# Altium schematic symbol library 4.4 - ADC模数转换器件.SchLib: 32 symbols
Pins are listed as number, name and electrical type; pins without a type are passive.

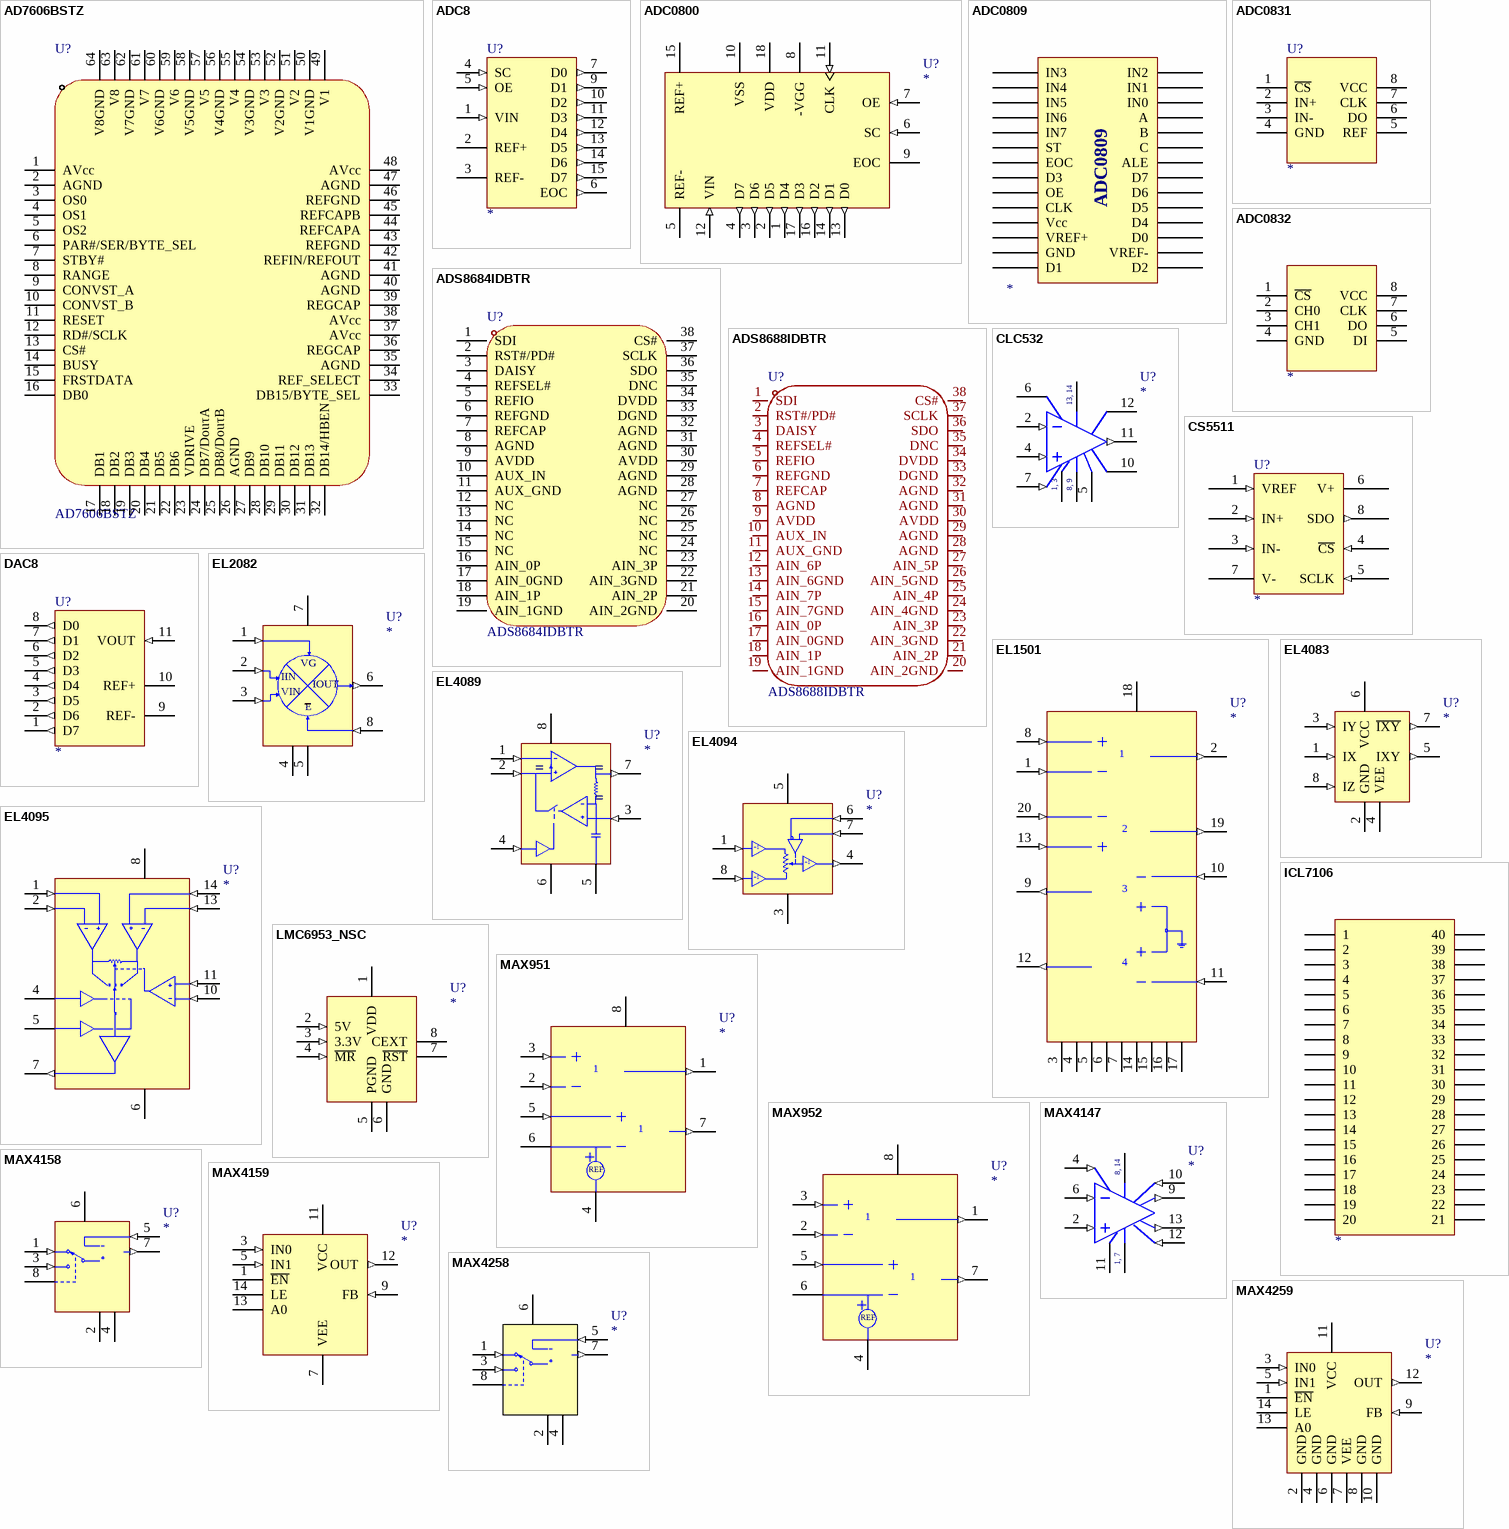
[diagram p0: symbols AD7606BSTZ to MAX4259]

## AD7606BSTZ
designator U?
ADC转换器件; Manufacturer: ADI(亚德诺); Symbol: AD7606BSTZ_C398827; Add into BOM: yes; Resolution: 16; Number of Channels: 8; Supply Voltage: 2.3V~5.25V；4.75V~5.25V; Device: AD7606BSTZ; LCSC Part Name: 8 通道 DAS，支持 16 位、双极性输入、同步采样 ADC; Supplier Part: C398827; Manufacturer Part: AD7606BSTZ; Supplier Footprint: LQFP-64(10x10); JLCPCB Part Class: 扩展库; Datasheet: https://atta.szlcsc.com/upload/public/pdf/source/20200312/C495029_477E5B714CC8ADA3D7A4ECEA0C949302.pdf; Supplier: LCSC; Convert to PCB: yes; Operating Temperature: -40℃~+85℃; BOM名称: ADC转换器件
footprint LQFP64 10x10_L (64脚，体宽10x10mm，脚距0.5mm)
footprint LQFP64 10x10_M (64脚，体宽10x10mm，脚距0.5mm         淘宝ID:黄晶宝石)
footprint LQFP44 10X10_N (44脚，体宽10x10mm，脚距0.8mm       淘宝ID:黄晶宝石)
pins: 1 AVcc, 2 AGND, 3 OS0, 4 OS1, 5 OS2, 6 PAR#/SER/BYTE_SEL, 7 STBY#, 8 RANGE, 9 CONVST_A, 10 CONVST_B, 11 RESET, 12 RD#/SCLK, 13 CS#, 14 BUSY, 15 FRSTDATA, 16 DB0, 17 DB1, 18 DB2, 19 DB3, 20 DB4, 21 DB5, 22 DB6, 23 VDRIVE, 24 DB7/DouτA, 25 DB8/DouτB, 26 AGND, 27 DB9, 28 DB10, 29 DB11, 30 DB12, 31 DB13, 32 DB14/HBEN, 33 DB15/BYTE_SEL, 34 REF_SELECT, 35 AGND, 36 REGCAP, 37 AVcc, 38 AVcc, 39 REGCAP, 40 AGND, 41 AGND, 42 REFIN/REFOUT, 43 REFGND, 44 REFCAPA, 45 REFCAPB, 46 REFGND, 47 AGND, 48 AVcc, 49 V1, 50 V1GND, 51 V2, 52 V2GND, 53 V3, 54 V3GND, 55 V4, 56 V4GND, 57 V5, 58 V5GND, 59 V6, 60 V6GND, 61 V7, 62 V7GND, 63 V8, 64 V8GND

## ADC8
designator U?
Generic 8-Bit A/D Converter; 封装库来自淘宝卖家 ID：黄晶宝石: 其他店铺购入均为盗版，不享受售后技术支持服务，请立即申请退款; 唯一出售店铺网址: https://shop463601444.taobao.com
simulation model ADC8 (SIMCODE)
pins: 1 VIN (in), 2 REF+, 3 REF-, 4 SC (in), 5 OE (in), 6 EOC (out), 7 D0 (out), 8 GND (power) hidden to GND, 9 D1 (out), 10 D2 (out), 11 D3 (out), 12 D4 (out), 13 D5 (out), 14 D6 (out), 15 D7 (out), 16 VCC (power) hidden to VCC

## ADC0800
designator U?
National 8-Bit Analog to Digital Converter
footprint DIP-18
simulation model ADC0800 (SUBCKT)
pins: 1 D4 (out), 2 D5 (out), 3 D6 (out), 4 D7 (out), 5 REF-, 6 SC (in), 7 OE (in), 8 -VGG (power), 9 EOC, 10 VSS (power), 11 CLK (in), 12 VIN (in), 13 D0 (out), 14 D1 (out), 15 REF+, 16 D2 (out), 17 D3 (out), 18 VDD (power)

## ADC0809
designator ?
pins: 1 IN3, 2 IN4, 3 IN5, 4 IN6, 5 IN7, 6 ST, 7 EOC, 8 D3, 9 OE, 10 CLK, 11 Vcc, 12 VREF+, 13 GND, 14 D1, 15 D2, 16 VREF-, 17 D0, 18 D4, 19 D5, 20 D6, 21 D7, 22 ALE, 23 C, 24 B, 25 A, 26 IN0, 27 IN1, 28 IN2

## ADC0831
designator U?
ADC
footprint DIP8
pins: 1 ~{CS}, 2 IN+, 3 IN-, 4 GND, 5 REF, 6 DO, 7 CLK, 8 VCC

## ADC0832
designator ?
pins: 1 ~{CS}, 2 CH0, 3 CH1, 4 GND, 5 DI, 6 DO, 7 CLK, 8 VCC

## ADS8684IDBTR
designator U?
Manufacturer: TI(德州仪器); Add into BOM: yes; Symbol: ADS8684IDBTR; Device: ADS8684IDBTR; LCSC Part Name: ADS8684IDBTR; Supplier Part: C528627; Manufacturer Part: ADS8684IDBTR; Supplier Footprint: TSSOP-38-4.4mm; JLCPCB Part Class: 扩展库; Datasheet: https://www.ti.com/cn/lit/gpn/ads8684; Supplier: LCSC; Convert to PCB: yes
footprint TSSOP-38
pins: 1 SDI, 2 RST#/PD#, 3 DAISY, 4 REFSEL#, 5 REFIO, 6 REFGND, 7 REFCAP, 8 AGND, 9 AVDD, 10 AUX_IN, 11 AUX_GND, 12 NC, 13 NC, 14 NC, 15 NC, 16 AIN_0P, 17 AIN_0GND, 18 AIN_1P, 19 AIN_1GND, 20 AIN_2GND, 21 AIN_2P, 22 AIN_3GND, 23 AIN_3P, 24 NC, 25 NC, 26 NC, 27 NC, 28 AGND, 29 AGND, 30 AVDD, 31 AGND, 32 AGND, 33 DGND, 34 DVDD, 35 DNC, 36 SDO, 37 SCLK, 38 CS#

## ADS8688IDBTR
designator U?
Manufacturer: TI(德州仪器); Add into BOM: yes; Resolution(Bits): 16位; Sampling Rate: 500kHz; number of channels: 8; Voltage - Supply: 4.75V~5.25V; Interface: SPI; Integral non - linearity: 0.75LSB; Symbol: ADS8688IDBTR; Device: ADS8688IDBTR; LCSC Part Name: ADS8688IDBTR; Supplier Part: C527390; Manufacturer Part: ADS8688IDBTR; Supplier Footprint: TSSOP-38-4.4mm; JLCPCB Part Class: 扩展库; Datasheet: https://www.ti.com/cn/lit/gpn/ads8684; Supplier: LCSC; Convert to PCB: yes; differential input: -; Operating Temperature: -40℃~+125℃
footprint TSSOP-38_L9.7-W4.4-P0.50-LS6.4-BL
3D model TSSOP-38_L9.7-W4.4-H1.0-LS6.4-P0.50
pins: 1 SDI, 2 RST#/PD#, 3 DAISY, 4 REFSEL#, 5 REFIO, 6 REFGND, 7 REFCAP, 8 AGND, 9 AVDD, 10 AUX_IN, 11 AUX_GND, 12 AIN_6P, 13 AIN_6GND, 14 AIN_7P, 15 AIN_7GND, 16 AIN_0P, 17 AIN_0GND, 18 AIN_1P, 19 AIN_1GND, 20 AIN_2GND, 21 AIN_2P, 22 AIN_3GND, 23 AIN_3P, 24 AIN_4GND, 25 AIN_4P, 26 AIN_5GND, 27 AIN_5P, 28 AGND, 29 AGND, 30 AVDD, 31 AGND, 32 AGND, 33 DGND, 34 DVDD, 35 DNC, 36 SDO, 37 SCLK, 38 CS#

## CLC532
designator U?
High-Speed 2:1 Analog Multiplexer
footprint DIP-14
simulation model CLC532 (SUBCKT)
pins: 1 GND (power), 2 INA- (in), 3 GND (power), 4 INB+ (in), 5 DGND (power), 6 DREF, 7 SEL (in), 8 VEE (power), 9 VEE (power), 10 COMP2, 11 OUT (out), 12 COMP1, 13 VCC (power), 14 VCC (power)
text: 13, 14; 1, 3; 8, 9

## CS5511
designator U?
National 16-Bit Analog to Digital Converter
pins: 1 VREF (in), 2 IN+ (in), 3 IN- (in), 4 ~{CS} (in), 5 SCLK (in), 6 V+ (power), 7 V- (power), 8 SDO (out)

## DAC8
designator U?
Generic 8-Bit D/A Converter
simulation model DAC8 (SIMCODE)
pins: 1 D7 (out), 2 D6 (out), 3 D5 (out), 4 D4 (out), 5 D3 (out), 6 D2 (out), 7 D1 (out), 8 D0 (out), 9 REF-, 10 REF+, 11 VOUT (in), 12 GND (power) hidden to GND, 13 VCC (power) hidden to VCC

## EL1501
designator U?
Differential line Driver/Receiver
footprint DIP-20
simulation model EL1501 (SUBCKT)
pins: 1 DRV+ IN- (in), 2 DRV+ OUT (out), 3 VEE (power), 4 GND (power), 5 GND (power), 6 GND (power), 7 GND (power), 8 DRV+ IN+ (in), 9 RX+ OUT1 (out), 10 RX+ IN1- (in), 11 RX- IN2- (in), 12 RX- OUT2 (out), 13 DRV- IN+ (in), 14 GND (power), 15 GND (power), 16 GND (power), 17 GND (power), 18 VCC (power), 19 DRV- OUT (out), 20 DRV- IN- (in)

## EL2082
designator U?
Current-Mode Multiplier
footprint DIP-8
simulation model EL2082 (SUBCKT)
pins: 1 VG (in), 2 IIN (in), 3 VIN (in), 4 VEE (power), 5 GND (power), 6 IOUT (out), 7 VCC (power), 8 ~{E} (in)
text: E

## EL4083
designator U?
Current Mode Four Quadrant Multiplier
footprint DIP-8
simulation model EL4083 (SUBCKT)
pins: 1 IX (in), 2 GND (power), 3 IY (in), 4 VEE (power), 5 IXY (out), 6 VCC (power), 7 ~{IXY} (out), 8 IZ (in)

## EL4089
designator U?
DC Restored Video Amplifier
footprint DIP-8
simulation model EL4089 (SUBCKT)
pins: 1 IN- (in), 2 IN+ (in), 3 S/H (in), 4 HOLD (in), 5 GND (power), 6 V- (power), 7 OUT (out), 8 V+ (power)

## EL4094
designator U?
Video Gain Control/Fader
footprint DIP-8
simulation model EL4094 (SUBCKT)
pins: 1 INB (in), 2 GND (power) hidden to GND, 3 V- (power), 4 OUT (out), 5 V+ (power), 6 ~{VG} (in), 7 VG (in), 8 INA (in)
text: +1

## EL4095
designator U?
Video Gain Contol/Fader/Multiplexer
footprint DIP-14
simulation model EL4095 (SUBCKT)
pins: 1 +INB (in), 2 -INB (in), 3 GND (power) hidden to GND, 4 ~{FORCE A}, 5 ~{FORCE B}, 6 V- (power), 7 V OUT (out), 8 V+ (power), 10 ~{V G} (in), 11 V G (in), 13 -INA (in), 14 +INA (in)

## ICL7106
designator ?
pins: 1, 2, 3, 4, 5, 6, 7, 8, 9, 10, 11, 12, 13, 14, 15, 16, 17, 18, 19, 20, 21, 22, 23, 24, 25, 26, 27, 28, 29, 30, 31, 32, 33, 34, 35, 36, 37, 38, 39, 40

## LMC6953_NSC
designator U?
PCI Local Bus Power Supervisor
footprint SO8
simulation model LMC6953_NSC (SUBCKT)
pins: 1 VDD (power), 2 5V (in), 3 3.3V (in), 4 ~{MR} (in), 5 PGND (power), 6 GND (power), 7 ~{RST} (oc), 8 CEXT

## MAX951
designator U?
Ultra-Low-Power, Single-Supply Op Amp + Comparator + Reference
simulation model MAX951 (SUBCKT)
pins: 1 AMPOUT (out), 2 AMPIN- (in), 3 AMPIN+ (in), 4 VEE (power), 5 COMPIN+ (in), 6 REF/COMPIN-, 7 COMPOUT (out), 8 VCC (power)
text: REF

## MAX952
designator U?
Ultra-Low-Power, Single-Supply Op Amp + Comparator + Reference
simulation model MAX952 (SUBCKT)
pins: 1 AMPOUT (out), 2 AMPIN- (in), 3 AMPIN+ (in), 4 VEE (power), 5 COMPIN+ (in), 6 REF/COMPIN-, 7 COMPOUT (out), 8 VCC (power)
text: REF

## MAX4147
designator U?
300MHz, Low-Power, High-Output-Current, Differential Line Driver; Text Field6: Pins 3 and 5 are not connected
simulation model MAX4147 (SUBCKT)
pins: 1 VEE (power), 2 IN+ (in), 4 SD (in), 6 IN- (in), 7 VEE (power), 8 VCC (power), 9 OUT- (out), 10 SEN- (in), 11 GND (power), 12 SEN+ (in), 13 OUT+ (out), 14 VCC (power)
text: 8, 14; 1, 7

## MAX4158
designator U?
350MHz 2-Channel Video Multiplexer-Amplifier; Text Field6: Due to manufacturer's model IN0 is always selected independent of A0 (stupid huh?)
simulation model MAX4158 (SUBCKT)
pins: 1 IN0 (in), 2 GND (power), 3 IN1 (in), 4 VEE (power), 5 FB (in), 6 VCC (power), 7 OUT (out), 8 A0

## MAX4159
designator U?
350MHz 2-Channel Video Multiplexer-Amplifier; Text Field6: Due to manufacturer's model IN0 is always selected independent of A0 (stupid huh?)
simulation model MAX4159 (SUBCKT)
pins: 1 ~{EN}, 2 GND (power) hidden to GND, 3 IN0 (in), 4 GND (power) hidden to GND, 5 IN1 (in), 6 GND (power) hidden to GND, 7 VEE (power), 8 GND (power) hidden to GND, 9 FB (in), 10 GND (power) hidden to GND, 11 VCC (power), 12 OUT (out), 13 A0, 14 LE

## MAX4258
designator U?
250MHz, 2-Channel Video Multiplexer-Amplifier; Text Field6: Due to manufacturer's model IN0 is always selected independent of A0 (stupid huh?)
simulation model MAX4258 (SUBCKT)
pins: 1 IN0 (in), 2 GND (power), 3 IN1 (in), 4 VEE (power), 5 FB (in), 6 VCC (power), 7 OUT (out), 8 A0

## MAX4259
designator U?
250MHz 2-Channel Video Multiplexer-Amplifier; Text Field6: Due to manufacturer's model IN0 is always selected independent of A0 (stupid huh?)
simulation model MAX4259 (SUBCKT)
pins: 1 ~{EN}, 2 GND (power), 3 IN0 (in), 4 GND (power), 5 IN1 (in), 6 GND (power), 7 VEE (power), 8 GND (power), 9 FB (in), 10 GND (power), 11 VCC (power), 12 OUT (out), 13 A0, 14 LE

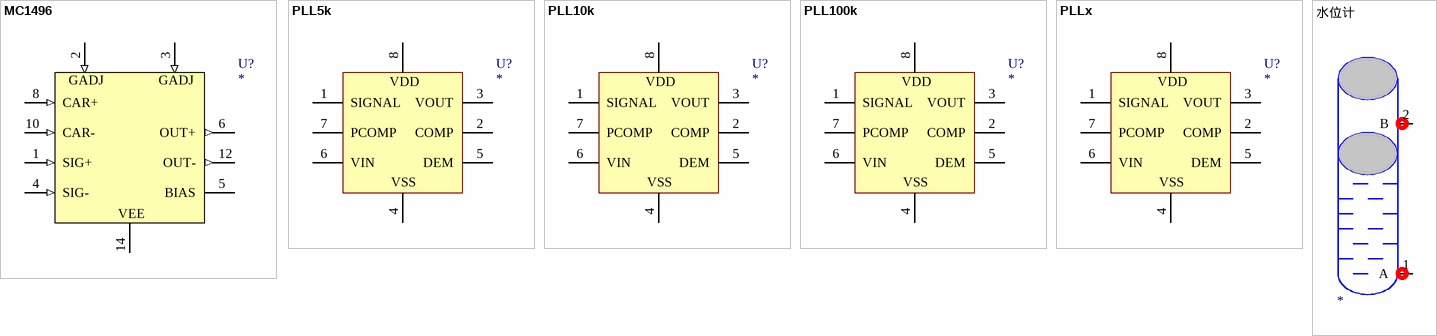
[diagram p1: symbols MC1496 to 水位计]

## MC1496
designator U?
Balanced Modulator/Demodulator
footprint DIP-14
simulation model MC1496 (SUBCKT)
pins: 1 SIG+ (in), 2 GADJ (in), 3 GADJ (in), 4 SIG- (in), 5 BIAS, 6 OUT+ (out), 8 CAR+ (in), 10 CAR- (in), 12 OUT- (out), 14 VEE (power)

## PLL5k
designator U?
Generic Phase Locked Loop
simulation model PLL5k (SUBCKT)
pins: 1 SIGNAL, 2 COMP, 3 VOUT, 4 VSS, 5 DEM, 6 VIN, 7 PCOMP, 8 VDD

## PLL10k
designator U?
Generic Phase Locked Loop
simulation model PLL10k (SUBCKT)
pins: 1 SIGNAL, 2 COMP, 3 VOUT, 4 VSS, 5 DEM, 6 VIN, 7 PCOMP, 8 VDD

## PLL100k
designator U?
Generic Phase Locked Loop
simulation model PLL100k (SUBCKT)
pins: 1 SIGNAL, 2 COMP, 3 VOUT, 4 VSS, 5 DEM, 6 VIN, 7 PCOMP, 8 VDD

## PLLx
designator U?
Generic Phase Locked Loop
simulation model PLLx (SUBCKT)
pins: 1 SIGNAL, 2 COMP, 3 VOUT, 4 VSS, 5 DEM, 6 VIN, 7 PCOMP, 8 VDD

## 水位计
designator ?
唯一出售店铺网址: 封装库来自淘宝 ID：黄晶宝石
pins: 1 A, 2 B